# EAGLE library part SDCARD (library microbuilder)
SD Card Reader 4UConnector: 06132
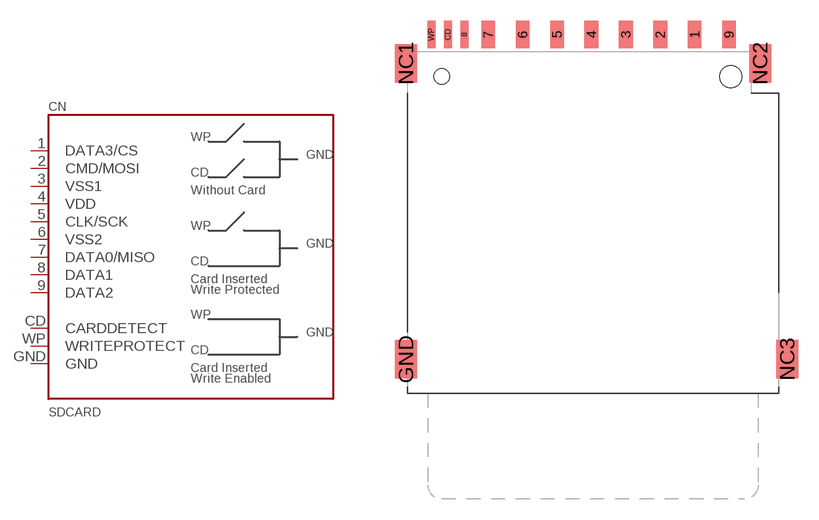
[diagram p35: symbol with the pads of SDCARD_SMT; footprint SDCARD_SMT]

Designator prefix CN

## SDCARD  [SDCARD_SMT]
1  DATA3/CS
2  CMD/MOSI
3  VSS1
4  VDD
5  CLK/SCK
6  VSS2
7  DATA0/MISO
8  DATA1
9  DATA2
CD  CARDDETECT
GND  GND
WP  WRITEPROTECT

## Footprint SDCARD_SMT (pad centres in mm)
SD Card Holder - 90° SMT 4UConnector: 06132
smd 1 x 2.008: 1 6.88,11.254; 2 4.38,11.254; 3 1.88,11.254; 4 -0.62,11.254; 5 -3.12,11.254; 6 -5.62,11.254; 7 -8.12,11.254; 9 9.38,11.254
smd 0.6 x 2.008: 8 -9.845,11.254; CD -11.045,11.254; WP -12.245,11.254
smd 1.6 x 2.8: GND -14.1,-12.35; NC1 -14.1,9.15; NC2 11.631,9.15; NC3 13.6,-12.35
hole 1.6 at 9.5,8.2
hole 1.1 at -11.5,8.2